# Altium integrated library Logic.IntLib: 13 symbols
Pins are listed as number, name and electrical type; pins without a type are passive.

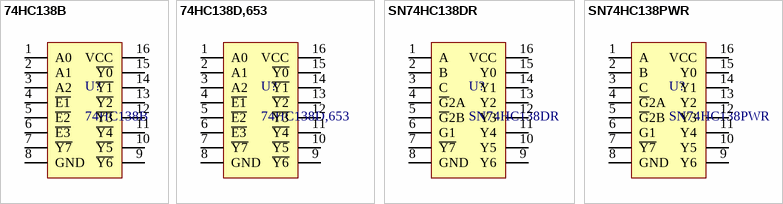
[diagram p0: symbols 74HC138B to SN74HC138PWR]

## 74HC138B
designator U?
制造商: FM(富满); 封装: SOP-16; 类别: 译码器/编码器; 子类别: 3/8译码器; 工作电压: 3V~5V; 元件数: 1; 每个元件位数: 3/8
footprint FM-SOP16 (FM(富满) 74HC595.)
pins: 1 A0, 2 A1, 3 A2, 4 ~{E1}, 5 ~{E2}, 6 ~{E3}, 7 ~{Y7}, 8 GND, 9 ~{Y6}, 10 ~{Y5}, 11 ~{Y4}, 12 ~{Y3}, 13 ~{Y2}, 14 ~{Y1}, 15 ~{Y0}, 16 VCC

## 74HC138D,653
designator U?
制造商: Nexperia(安世); 封装: SOIC-16; 类别: 译码器/编码器; 子类别: 3/8译码器; 工作电压: 2V~6V; 元件数: 1; 每个元件位数: 3/8
footprint 74HC138D,653
pins: 1 A0, 2 A1, 3 A2, 4 ~{E1}, 5 ~{E2}, 6 ~{E3}, 7 ~{Y7}, 8 GND, 9 ~{Y6}, 10 ~{Y5}, 11 ~{Y4}, 12 ~{Y3}, 13 ~{Y2}, 14 ~{Y1}, 15 ~{Y0}, 16 VCC

## SN74HC138DR
designator U?
制造商: TI(德州仪器); 封装: SOIC-16; 类别: 译码器/编码器; 子类别: 3/8译码器; 工作电压: 2V~6V; 元件数: 1; 每个元件位数: 3/8
footprint SN74HC138DR
pins: 1 A, 2 B, 3 C, 4 ~{G}2A, 5 ~{G}2B, 6 G1, 7 ~{Y7}, 8 GND, 9 Y6, 10 Y5, 11 Y4, 12 Y3, 13 Y2, 14 Y1, 15 Y0, 16 VCC

## SN74HC138PWR
designator U?
制造商: TI(德州仪器); 封装: TTSOP-16; 类别: 译码器/编码器; 子类别: 3/8译码器; 工作电压: 2V~6V; 元件数: 1; 每个元件位数: 3/8
footprint SN74HC138PWR (TI SN74HC138PWR 推荐焊盘)
pins: 1 A, 2 B, 3 C, 4 ~{G}2A, 5 ~{G}2B, 6 G1, 7 ~{Y7}, 8 GND, 9 Y6, 10 Y5, 11 Y4, 12 Y3, 13 Y2, 14 Y1, 15 Y0, 16 VCC


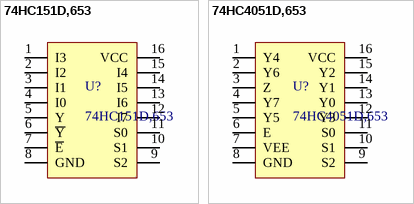
[diagram p1: symbols 74HC151D,653 to 74HC4051D,653]

## 74HC151D,653
designator U?
制造商: Nexperia(安世); 封装: SOIC-16; 类别: 多路复用器; 子类别: 数字多路复用器; 工作电压: 2V~6V; 开关电路: 8:1; 通道数: 1
footprint SOT109-1 (nexperia SOT109-1)
pins: 1 I3, 2 I2, 3 I1, 4 I0, 5 Y, 6 ~{Y}, 7 ~{E}, 8 GND, 9 S2, 10 S1, 11 S0, 12 I7, 13 I6, 14 I5, 15 I4, 16 VCC

## 74HC4051D,653
designator U?
制造商: Nexperia(安世); 封装: SOIC-16; 类别: 多路复用器; 子类别: 模拟多路复用器; 工作电压: 2V~10V; 开关电路: 8:1; 通道数: 1
footprint SOT109-1 (nexperia SOT109-1)
pins: 1 Y4, 2 Y6, 3 Z, 4 Y7, 5 Y5, 6 E, 7 VEE, 8 GND, 9 S2, 10 S1, 11 S0, 12 Y3, 13 Y0, 14 Y1, 15 Y2, 16 VCC


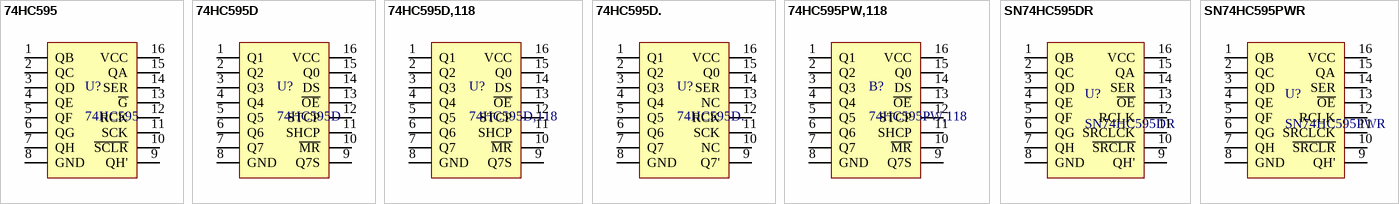
[diagram p2: symbols 74HC595 to SN74HC595PWR]

## 74HC595
designator U?
GR(国睿) SOP-16 串入并出; 制造商: GR(国睿); 类别: 移位寄存器; 子类别: 74HC系列; 工作电压: 2V~6V; 元件数: 1; 每个元件位数: 8; 封装: SOP-16
footprint GR-SOP16 (SOP, 16-Leads, Body 9.90x3.90mm, Pitch 1.27mm, IPC Medium Density)
pins: 1 QB, 2 QC, 3 QD, 4 QE, 5 QF, 6 QG, 7 QH, 8 GND, 9 QH', 10 ~{SCLR}, 11 SCK, 12 RCK, 13 ~{G}, 14 SER, 15 QA, 16 VCC

## 74HC595D
designator U?
JSMSEMI(杰盛微) SOIC-16 串入并出; 类别: 移位寄存器; 子类别: 74HC系列; 工作电压: 2V~6V; 元件数: 1; 每个元件位数: 8; 制造商: JSMSEMI(杰盛微); 封装: SOIC-16
footprint JSMSEMI-SOP16 (SOP, 16-Leads, Body 9.90x3.95mm, Pitch 1.27mm, IPC Medium Density)
pins: 1 Q1, 2 Q2, 3 Q3, 4 Q4, 5 Q5, 6 Q6, 7 Q7, 8 GND, 9 Q7S, 10 ~{MR}, 11 SHCP, 12 STCP, 13 ~{OE}, 14 DS, 15 Q0, 16 VCC

## 74HC595D,118
designator U?
Nexperia(安世) SOIC-16 串入并出; 类别: 移位寄存器; 子类别: 74HC系列; 工作电压: 2V~6V; 元件数: 1; 每个元件位数: 8; 制造商: Nexperia(安世); 封装: SOIC-16
footprint SOT109-1_118 (nexperia SOT109-1_118)
pins: 1 Q1, 2 Q2, 3 Q3, 4 Q4, 5 Q5, 6 Q6, 7 Q7, 8 GND, 9 Q7S, 10 ~{MR}, 11 SHCP, 12 STCP, 13 ~{OE}, 14 DS, 15 Q0, 16 VCC

## 74HC595D.
designator U?
FM(富满) SOP-16 串入并出 LED单色显示屏驱动，不能与其他595替换; 制造商: FM(富满); 类别: 移位寄存器; 子类别: 74HC系列; 工作电压: 3V~5V; 元件数: 1; 每个元件位数: 8; 封装: SOP-16
footprint FM-SOP16 (FM(富满) 74HC595.)
pins: 1 Q1, 2 Q2, 3 Q3, 4 Q4, 5 Q5, 6 Q6, 7 Q7, 8 GND, 9 Q7', 10 NC "悬空", 11 SCK, 12 RCK, 13 NC "悬空", 14 SER, 15 Q0, 16 VCC

## 74HC595PW,118
designator B?
Nexperia(安世) TSSOP-16 串入并出; 类别: 移位寄存器; 子类别: 74HC系列; 工作电压: 2V~6V; 元件数: 1; 每个元件位数: 8; 制造商: Nexperia(安世); 封装: TSSOP-16
footprint SOT403-1_118
pins: 1 Q1, 2 Q2, 3 Q3, 4 Q4, 5 Q5, 6 Q6, 7 Q7, 8 GND, 9 Q7S, 10 ~{MR}, 11 SHCP, 12 STCP, 13 ~{OE}, 14 DS, 15 Q0, 16 VCC

## SN74HC595DR
designator U?
TI(德州仪器) SOIC-16 串入并出; 类别: 移位寄存器; 子类别: 74HC系列; 工作电压: 2V~6V; 元件数: 1; 每个元件位数: 8; 制造商: TI(德州仪器); 封装: SOIC-16
footprint SN74HC595DR (TI SN74HC595DR 推荐焊盘)
pins: 1 QB, 2 QC, 3 QD, 4 QE, 5 QF, 6 QG, 7 QH, 8 GND, 9 QH', 10 ~{SRCLR}, 11 SRCLCK, 12 RCLK, 13 ~{OE}, 14 SER, 15 QA, 16 VCC

## SN74HC595PWR
designator U?
TI(德州仪器) SOIC-16 串入并出; 封装: TSSOP-16; 类别: 移位寄存器; 子类别: 74HC系列; 工作电压: 2V~6V; 元件数: 1; 每个元件位数: 8; 制造商: TI(德州仪器)
footprint SN74HC595PWR (TI SN74HC595PWR 推荐焊盘)
pins: 1 QB, 2 QC, 3 QD, 4 QE, 5 QF, 6 QG, 7 QH, 8 GND, 9 QH', 10 ~{SRCLR}, 11 SRCLCK, 12 RCLK, 13 ~{OE}, 14 SER, 15 QA, 16 VCC